# Altium footprint library WS-TASU.PcbLib: 11 footprints
Each footprint in its own frame and in the unit in brackets; x right, y up, seen from the top. Pads: shape width x height; smd on the part's side, far side on the other; paste and mask are expansions set on the pad; w line width, h text height; cw(c..) or ccw(c..) is an arc to the next point about the centre after c.
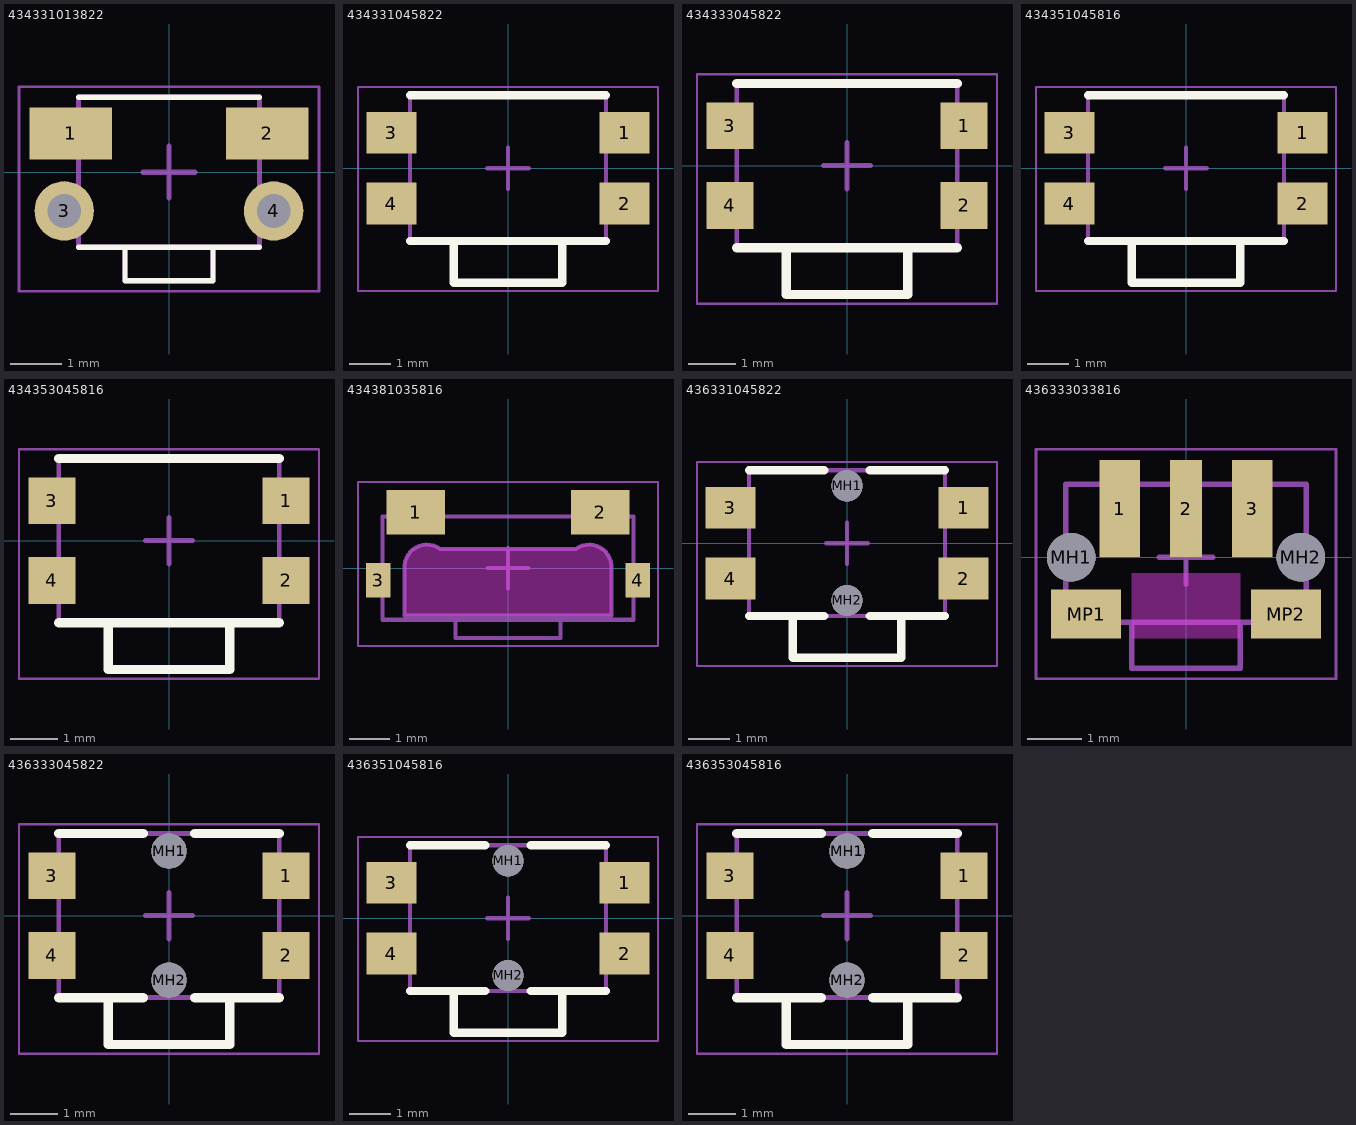
[diagram p0: the footprints below, top view; thin cyan lines are the x and y axes]

## 434331013822 [mm] "WS-TASU 3.5x2.9 mm SMD side push"
height 1.35
pads (4):
  rect 1.6x1 smd: 1(-1.9,0.75) 2(1.9,0.75)
  round 1.15 hole 0.65: 3(-2.025,-0.75) 4(2.025,-0.75)
Top Overlay:
  lines w0.1: -1.75,-1.45 1.75,-1.45 ; -1.75,1.45 1.75,1.45 ; -0.85,-1.45 -0.85,-2.1 0.85,-2.1 0.85,-1.45
Top Assembly:
  lines w0.1: -0.85,-1.45 -0.85,-2.1 0.85,-2.1 0.85,-1.45 ; -1.75,-1.45 -1.75,1.45 1.75,1.45 1.75,-1.45 -1.75,-1.45
Top Designator:
  text ".Designator" at -3.647,-0.357 h1
Top 3D Body:
  lines w0.1: -0.85,-1.45 -0.85,-2.1 0.85,-2.1 0.85,-1.45 ; -1.75,-1.45 1.75,-1.45 1.75,1.45 -1.75,1.45 -1.75,-1.45
Top Courtyard:
  lines w0.05: -2.9,-2.3 -2.9,1.65 2.9,1.65 2.9,-2.3 -2.9,-2.3
Top Component Center:
  lines w0.1: -0.5,0 0.5,0 ; 0,-0.5 0,0.5
3D body "434331013822.stp": height 1.35, standoff -0.6, extent -2.35,-2.1 2.35,1.45

## 434331045822 [mm] "3.5x4.7 mm SMD side push"
height 1.65
pads (4):
  rect 1.2x1 smd: 1(2.8,0.85) 2(2.8,-0.85) 3(-2.8,0.85) 4(-2.8,-0.85)
Top Overlay:
  lines w0.2: -2.35,-1.75 2.35,-1.75 ; -2.35,1.75 2.35,1.75 ; -1.3,-1.75 -1.3,-2.75 1.3,-2.75 1.3,-1.75
Top Assembly:
  lines w0.1: -2.35,-1.15 -3.2,-1.15 -3.2,-0.55 -2.35,-0.55 ; -2.35,0.55 -3.2,0.55 -3.2,1.15 -2.35,1.15 ; -1.3,-1.75 -1.3,-2.75 1.3,-2.75 1.3,-1.75 ; 2.35,-1.15 3.2,-1.15 3.2,-0.55 2.35,-0.55 ; 2.35,0.55 3.2,0.55 3.2,1.15 2.35,1.15 ; -2.35,-1.75 -2.35,1.75 2.35,1.75 2.35,-1.75 -2.35,-1.75
Top Designator:
  text ".Designator" at -3.647,-0.357 h1
Top 3D Body:
  lines w0.1: -2.35,-1.15 -3.2,-1.15 -3.2,-0.55 -2.35,-0.55 ; -2.35,0.55 -3.2,0.55 -3.2,1.15 -2.35,1.15 ; -1.3,-1.75 -1.3,-2.75 1.3,-2.75 1.3,-1.75 ; 2.35,-1.15 3.2,-1.15 3.2,-0.55 2.35,-0.55 ; 2.35,0.55 3.2,0.55 3.2,1.15 2.35,1.15 ; -2.35,-1.75 2.35,-1.75 2.35,1.75 -2.35,1.75 -2.35,-1.75
Top Courtyard:
  lines w0.05: -3.6,-2.95 3.6,-2.95 3.6,1.95 -3.6,1.95 -3.6,-2.95
Top Component Center:
  lines w0.1: -0.5,0 0.5,0 ; 0,-0.5 0,0.5
3D body "4343x10458xx.stp": height 1.65, standoff 0, extent -3.2,-2.75 3.2,1.75

## 434333045822 [mm] "3.5x4.7 mm SMD J-Bend side push"
height 1.65
pads (4):
  rect 1x1 smd: 1(2.5,0.85) 2(2.5,-0.85) 3(-2.5,0.85) 4(-2.5,-0.85)
Top Overlay:
  lines w0.2: -2.35,-1.75 2.35,-1.75 ; -2.35,1.75 2.35,1.75 ; -1.3,-1.75 -1.3,-2.75 1.3,-2.75 1.3,-1.75
Top Assembly:
  lines w0.1: -1.3,-1.75 -1.3,-2.75 1.3,-2.75 1.3,-1.75 ; -2.35,-1.75 2.35,-1.75 2.35,1.75 -2.35,1.75 -2.35,-1.75
Top Designator:
  text ".Designator" at -3.647,-0.357 h1
Top 3D Body:
  lines w0.1: -1.3,-1.75 -1.3,-2.75 1.3,-2.75 1.3,-1.75 ; -2.35,-1.75 -2.35,1.75 2.35,1.75 2.35,-1.75 -2.35,-1.75
Top Courtyard:
  lines w0.05: -3.2,-2.95 3.2,-2.95 3.2,1.95 -3.2,1.95 -3.2,-2.95
Top Component Center:
  lines w0.1: -0.5,0 0.5,0 ; 0,-0.5 0,0.5
3D body "4343x30458xx.stp": height 1.65, standoff 0, extent -2.75,-2.75 2.75,1.75

## 434351045816 [mm] "3.5x4.7 mm SMD side push"
height 1.65
pads (4):
  rect 1.2x1 smd: 1(2.8,0.85) 2(2.8,-0.85) 3(-2.8,0.85) 4(-2.8,-0.85)
Top Overlay:
  lines w0.2: -2.35,-1.75 2.35,-1.75 ; -2.35,1.75 2.35,1.75 ; -1.3,-1.75 -1.3,-2.75 1.3,-2.75 1.3,-1.75
Top Assembly:
  lines w0.1: -2.35,-1.15 -3.2,-1.15 -3.2,-0.55 -2.35,-0.55 ; -2.35,0.55 -3.2,0.55 -3.2,1.15 -2.35,1.15 ; -1.3,-1.75 -1.3,-2.75 1.3,-2.75 1.3,-1.75 ; 2.35,-1.15 3.2,-1.15 3.2,-0.55 2.35,-0.55 ; 2.35,0.55 3.2,0.55 3.2,1.15 2.35,1.15 ; -2.35,-1.75 -2.35,1.75 2.35,1.75 2.35,-1.75 -2.35,-1.75
Top Designator:
  text ".Designator" at -3.647,-0.357 h1
Top 3D Body:
  lines w0.1: -2.35,-1.15 -3.2,-1.15 -3.2,-0.55 -2.35,-0.55 ; -2.35,0.55 -3.2,0.55 -3.2,1.15 -2.35,1.15 ; -1.3,-1.75 -1.3,-2.75 1.3,-2.75 1.3,-1.75 ; 2.35,-1.15 3.2,-1.15 3.2,-0.55 2.35,-0.55 ; 2.35,0.55 3.2,0.55 3.2,1.15 2.35,1.15 ; -2.35,-1.75 2.35,-1.75 2.35,1.75 -2.35,1.75 -2.35,-1.75
Top Courtyard:
  lines w0.05: -3.6,-2.95 3.6,-2.95 3.6,1.95 -3.6,1.95 -3.6,-2.95
Top Component Center:
  lines w0.1: -0.5,0 0.5,0 ; 0,-0.5 0,0.5
3D body "4343x10458xx.stp": height 1.65, standoff 0, extent -3.2,-2.75 3.2,1.75

## 434353045816 [mm] "3.5x4.7 mm SMD J-Bend side push"
height 1.65
pads (4):
  rect 1x1 smd: 1(2.5,0.85) 2(2.5,-0.85) 3(-2.5,0.85) 4(-2.5,-0.85)
Top Overlay:
  lines w0.2: -2.35,-1.75 2.35,-1.75 ; -2.35,1.75 2.35,1.75 ; -1.3,-1.75 -1.3,-2.75 1.3,-2.75 1.3,-1.75
Top Assembly:
  lines w0.1: -1.3,-1.75 -1.3,-2.75 1.3,-2.75 1.3,-1.75 ; -2.35,-1.75 2.35,-1.75 2.35,1.75 -2.35,1.75 -2.35,-1.75
Top Designator:
  text ".Designator" at -3.647,-0.357 h1
Top 3D Body:
  lines w0.1: -1.3,-1.75 -1.3,-2.75 1.3,-2.75 1.3,-1.75 ; -2.35,-1.75 -2.35,1.75 2.35,1.75 2.35,-1.75 -2.35,-1.75
Top Courtyard:
  lines w0.05: -3.2,-2.95 3.2,-2.95 3.2,1.95 -3.2,1.95 -3.2,-2.95
Top Component Center:
  lines w0.1: -0.5,0 0.5,0 ; 0,-0.5 0,0.5
3D body "4343x30458xx.stp": height 1.65, standoff 0, extent -2.75,-2.75 2.75,1.75

## 434381035816 [mm] "6.2x3mm SMD Tact Switch"
height 3
pads (4):
  rect 1.45x1.1 smd: 1(-2.275,1.375) 2(2.275,1.375)
  rect 0.6x0.85 smd: 3(-3.2,-0.3) 4(3.2,-0.3)
Keep-Out Layer:
  board cut-out: -2.55,-1.175 2.55,-1.175 2.55,-0.025 2.557,0.054 2.527,0.209 2.454,0.35 2.344,0.464 2.206,0.543 2.052,0.58 1.894,0.573 1.744,0.521 1.68,0.475 -1.68,0.475 -1.745,0.521 -1.894,0.573 -2.053,0.58 -2.207,0.543 -2.344,0.464 -2.454,0.35 -2.527,0.209 -2.557,0.054 -2.55,-0.025
Assembly Notes:
  lines w0.1: -2.55,-1.175 2.55,-1.175 2.55,-0.025 ccw(c2,0.025) 1.68,0.475 -1.68,0.475 ccw(c-2,0.025) -2.55,-0.025 -2.55,-1.175
  text "PCB Cutout" at -1.5,-0.475 h0.41
Top Assembly:
  lines w0.1: -1.3,-1.275 -1.3,-1.725 1.3,-1.725 1.3,-1.275 ; -3.1,-1.275 -3.1,0.175 -3.1,1.275 3.1,1.275 3.1,0.175 3.1,-1.275 -3.1,-1.275
Top Designator:
  text ".Designator" at -3.647,-0.357 h1
Top 3D Body:
  lines w0.1: -1.3,-1.275 -1.3,-1.725 1.3,-1.725 1.3,-1.275 ; -3.1,-1.275 3.1,-1.275 3.1,0.175 3.1,1.275 -3.1,1.275 -3.1,0.175 -3.1,-1.275
Top Courtyard:
  lines w0.05: -3.7,-1.925 -3.7,2.125 3.7,2.125 3.7,-1.925 -3.7,-1.925
Top Component Center:
  lines w0.1: -0.5,0 0.5,0 ; 0,-0.5 0,0.5
3D body "434381035816.stp": height 1.36, standoff -2.19, extent -3.1,-1.725 3.1,1.275

## 436331045822 [mm] "3.5x4.7 mm SMD side push"
height 1.65
pads (6):
  rect 1.2x1 smd: 1(2.8,0.85) 2(2.8,-0.85) 3(-2.8,0.85) 4(-2.8,-0.85)
  round 0.75 hole 0.75 unplated: MH1(0,1.375) MH2(0,-1.375)
Top Overlay:
  lines w0.2: -2.35,-1.75 -0.55,-1.75 ; -2.35,1.75 -0.55,1.75 ; -1.3,-1.75 -1.3,-2.75 1.3,-2.75 1.3,-1.75 ; 0.55,-1.75 2.35,-1.75 ; 0.55,1.75 2.35,1.75
Top Assembly:
  lines w0.1: -2.35,-1.15 -3.2,-1.15 -3.2,-0.55 -2.35,-0.55 ; -2.35,0.55 -3.2,0.55 -3.2,1.15 -2.35,1.15 ; -1.3,-1.75 -1.3,-2.75 1.3,-2.75 1.3,-1.75 ; 2.35,-1.15 3.2,-1.15 3.2,-0.55 2.35,-0.55 ; 2.35,0.55 3.2,0.55 3.2,1.15 2.35,1.15 ; -2.35,-1.75 -2.35,1.75 2.35,1.75 2.35,-1.75 -2.35,-1.75
Top Designator:
  text ".Designator" at -3.647,-0.357 h1
Top 3D Body:
  lines w0.1: -2.35,-1.15 -3.2,-1.15 -3.2,-0.55 -2.35,-0.55 ; -2.35,0.55 -3.2,0.55 -3.2,1.15 -2.35,1.15 ; -1.3,-1.75 -1.3,-2.75 1.3,-2.75 1.3,-1.75 ; 2.35,-1.15 3.2,-1.15 3.2,-0.55 2.35,-0.55 ; 2.35,0.55 3.2,0.55 3.2,1.15 2.35,1.15 ; -2.35,-1.75 2.35,-1.75 2.35,1.75 -2.35,1.75 -2.35,-1.75
Top Courtyard:
  lines w0.05: -3.6,-2.95 -3.6,1.95 3.6,1.95 3.6,-2.95 -3.6,-2.95
Top Component Center:
  lines w0.1: -0.5,0 0.5,0 ; 0,-0.5 0,0.5
3D body "4363x10458xx.stp": height 1.65, standoff -0.5, extent -3.2,-2.75 3.2,1.75

## 436333033816 [mm] "J-Bend SMT Tact Switchwith boss design"
height 3.3
pads (7):
  rect 0.75x1.8 smd: 1(-1.225,0.9) 3(1.225,0.9)
  rect 0.6x1.8 smd: 2(0,0.9)
  round 0.9 hole 0.9 unplated: MH1(-2.125,0) MH2(2.125,0)
  rect 1.3x0.9 smd: MP1(-1.85,-1.05) MP2(1.85,-1.05)
Top Layer keep-out:
  region: -1,-0.3 1,-0.3 1,-1.5 -1,-1.5
Top Assembly:
  lines w0.1: -1,-1.2 -1,-2.05 1,-2.05 1,-1.2 ; -2.225,-1.2 2.225,-1.2 2.225,1.35 -2.225,1.35 -2.225,-1.2
Top Designator:
  text ".Designator" at -3.647,-0.357 h1
Top 3D Body:
  lines w0.1: -1,-1.2 -1,-2.05 1,-2.05 1,-1.2 ; -2.225,-1.2 -2.225,1.35 2.225,1.35 2.225,-1.2 -2.225,-1.2
Top Courtyard:
  lines w0.05: -2.775,-2.25 -2.775,2 2.775,2 2.775,-2.25 -2.775,-2.25
Top Component Center:
  lines w0.1: -0.5,0 0.5,0 ; 0,-0.5 0,0.5
3D body "436333033816.stp": height 3.32, standoff -0.45, extent -2.25,-2.05 2.25,1.44

## 436333045822 [mm] "3.5x4.7 mm SMD J-Bend side push"
height 1.65
pads (6):
  rect 1x1 smd: 1(2.5,0.85) 2(2.5,-0.85) 3(-2.5,0.85) 4(-2.5,-0.85)
  round 0.75 hole 0.75 unplated: MH1(0,1.375) MH2(0,-1.375)
Top Overlay:
  lines w0.2: -2.35,-1.75 -0.55,-1.75 ; -2.35,1.75 -0.55,1.75 ; -1.3,-1.75 -1.3,-2.75 1.3,-2.75 1.3,-1.75 ; 0.55,-1.75 2.35,-1.75 ; 0.55,1.75 2.35,1.75
Top Assembly:
  lines w0.1: -1.3,-1.75 -1.3,-2.75 1.3,-2.75 1.3,-1.75 ; -2.35,-1.75 2.35,-1.75 2.35,1.75 -2.35,1.75 -2.35,-1.75
Top Designator:
  text ".Designator" at -3.647,-0.357 h1
Top 3D Body:
  lines w0.1: -1.3,-1.75 -1.3,-2.75 1.3,-2.75 1.3,-1.75 ; -2.35,-1.75 -2.35,1.75 2.35,1.75 2.35,-1.75 -2.35,-1.75
Top Courtyard:
  lines w0.05: -3.2,-2.95 3.2,-2.95 3.2,1.95 -3.2,1.95 -3.2,-2.95
Top Component Center:
  lines w0.1: -0.5,0 0.5,0 ; 0,-0.5 0,0.5
3D body "4363x30458xx.stp": height 1.65, standoff -0.5, extent -2.75,-2.75 2.75,1.75

## 436351045816 [mm] "3.5x4.7 mm SMD side push"
height 1.65
pads (6):
  rect 1.2x1 smd: 1(2.8,0.85) 2(2.8,-0.85) 3(-2.8,0.85) 4(-2.8,-0.85)
  round 0.75 hole 0.75 unplated: MH1(0,1.375) MH2(0,-1.375)
Top Overlay:
  lines w0.2: -2.35,-1.75 -0.55,-1.75 ; -2.35,1.75 -0.55,1.75 ; -1.3,-1.75 -1.3,-2.75 1.3,-2.75 1.3,-1.75 ; 0.55,-1.75 2.35,-1.75 ; 0.55,1.75 2.35,1.75
Top Assembly:
  lines w0.1: -2.35,-1.15 -3.2,-1.15 -3.2,-0.55 -2.35,-0.55 ; -2.35,0.55 -3.2,0.55 -3.2,1.15 -2.35,1.15 ; -1.3,-1.75 -1.3,-2.75 1.3,-2.75 1.3,-1.75 ; 2.35,-1.15 3.2,-1.15 3.2,-0.55 2.35,-0.55 ; 2.35,0.55 3.2,0.55 3.2,1.15 2.35,1.15 ; -2.35,-1.75 2.35,-1.75 2.35,1.75 -2.35,1.75 -2.35,-1.75
Top Designator:
  text ".Designator" at -3.647,-0.357 h1
Top 3D Body:
  lines w0.1: -2.35,-1.15 -3.2,-1.15 -3.2,-0.55 -2.35,-0.55 ; -2.35,0.55 -3.2,0.55 -3.2,1.15 -2.35,1.15 ; -1.3,-1.75 -1.3,-2.75 1.3,-2.75 1.3,-1.75 ; 2.35,-1.15 3.2,-1.15 3.2,-0.55 2.35,-0.55 ; 2.35,0.55 3.2,0.55 3.2,1.15 2.35,1.15 ; -2.35,-1.75 -2.35,1.75 2.35,1.75 2.35,-1.75 -2.35,-1.75
Top Courtyard:
  lines w0.05: -3.6,-2.95 3.6,-2.95 3.6,1.95 -3.6,1.95 -3.6,-2.95
Top Component Center:
  lines w0.1: -0.5,0 0.5,0 ; 0,-0.5 0,0.5
3D body "4363x10458xx.stp": height 1.65, standoff -0.5, extent -3.2,-2.75 3.2,1.75

## 436353045816 [mm] "3.5x4.7 mm SMD J-Bend side push"
height 1.65
pads (6):
  rect 1x1 smd: 1(2.5,0.85) 2(2.5,-0.85) 3(-2.5,0.85) 4(-2.5,-0.85)
  round 0.75 hole 0.75 unplated: MH1(0,1.375) MH2(0,-1.375)
Top Overlay:
  lines w0.2: -2.35,-1.75 -0.55,-1.75 ; -2.35,1.75 -0.55,1.75 ; -1.3,-1.75 -1.3,-2.75 1.3,-2.75 1.3,-1.75 ; 0.55,-1.75 2.35,-1.75 ; 0.55,1.75 2.35,1.75
Top Assembly:
  lines w0.1: -1.3,-1.75 -1.3,-2.75 1.3,-2.75 1.3,-1.75 ; -2.35,-1.75 2.35,-1.75 2.35,1.75 -2.35,1.75 -2.35,-1.75
Top Designator:
  text ".Designator" at -3.647,-0.357 h1
Top 3D Body:
  lines w0.1: -1.3,-1.75 -1.3,-2.75 1.3,-2.75 1.3,-1.75 ; -2.35,-1.75 -2.35,1.75 2.35,1.75 2.35,-1.75 -2.35,-1.75
Top Courtyard:
  lines w0.05: -3.2,-2.95 3.2,-2.95 3.2,1.95 -3.2,1.95 -3.2,-2.95
Top Component Center:
  lines w0.1: -0.5,0 0.5,0 ; 0,-0.5 0,0.5
3D body "4363x30458xx.stp": height 1.65, standoff -0.5, extent -2.75,-2.75 2.75,1.75